# Altium footprint library PcbLib1.PcbLib: 90 footprints (part 6 of 6)
Each footprint in its own frame and in the unit in brackets; x right, y up, seen from the top. Pads: shape width x height; smd on the part's side, far side on the other; paste and mask are expansions set on the pad; w line width, h text height; cw(c..) or ccw(c..) is an arc to the next point about the centre after c.
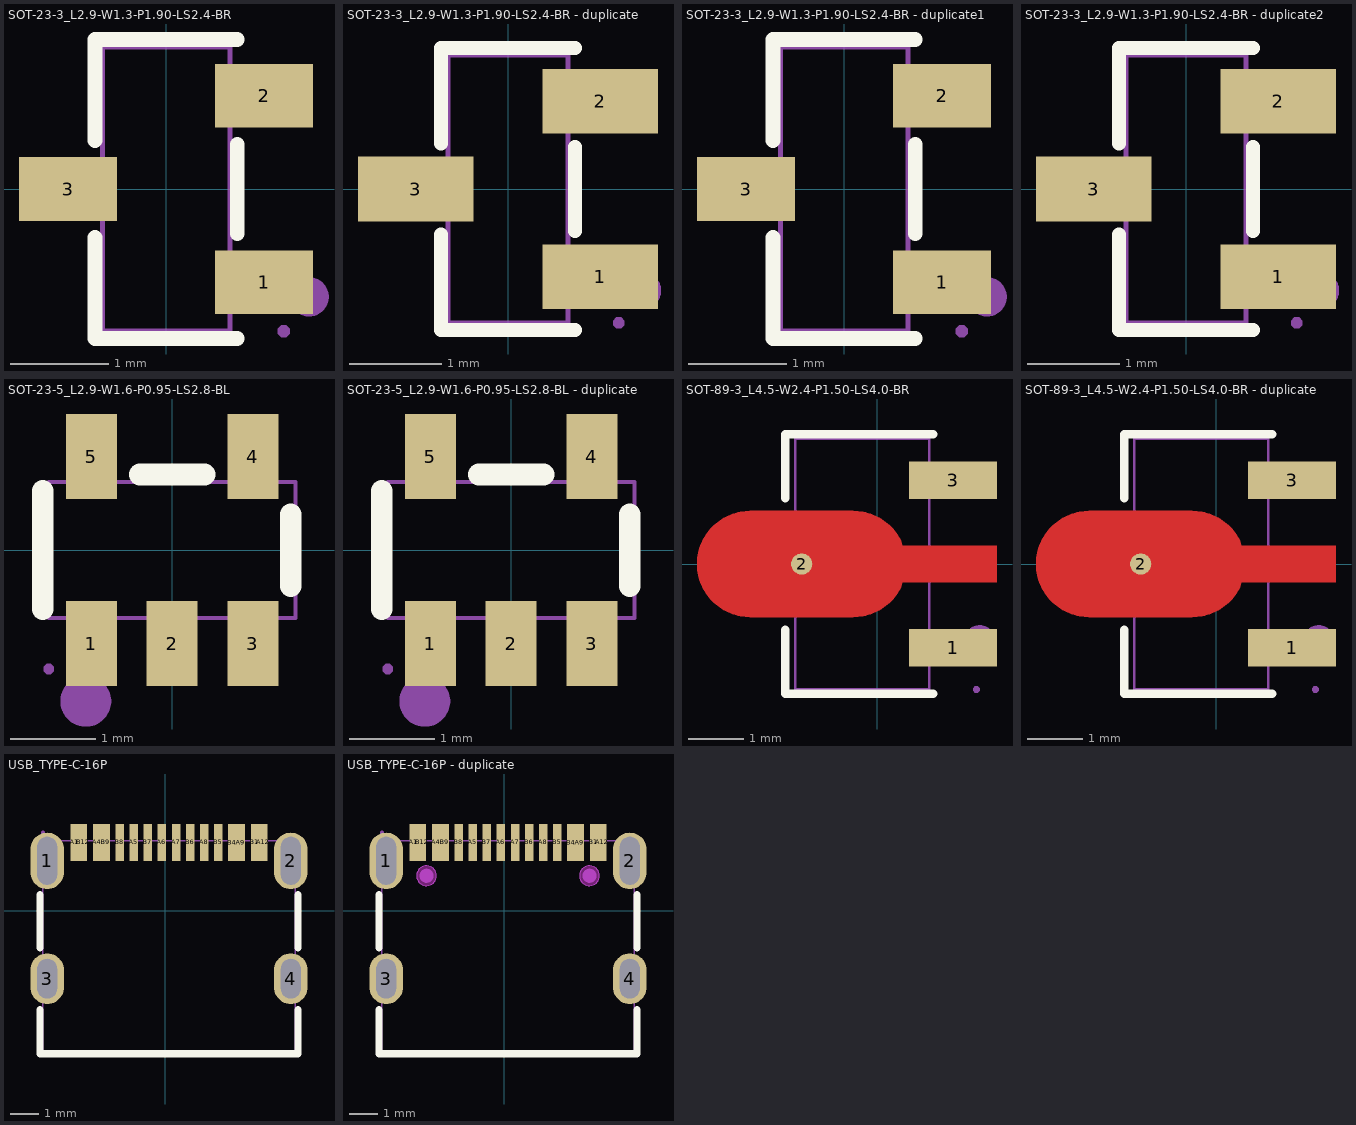
[diagram p5: the footprints below, top view; thin cyan lines are the x and y axes]

## SOT-23-3_L2.9-W1.3-P1.90-LS2.4-BR [mm]
pads (3):
  rect 1x0.65 smd paste+0.051: 1(1,-0.95) 2(1,0.95) 3(-1,0)
Top Overlay:
  lines w0.152: -0.726,-0.495 -0.726,-1.526 0.726,-1.526 ; -0.726,0.495 -0.726,1.526 0.726,1.526 ; 0.726,-0.455 0.726,0.455
Mechanical 6:
  circle w0.2: c1.46,-1.1 r0.1
Mechanical 7:
  lines w0.051: -0.65,-1.45 0.65,-1.45 0.65,1.45 -0.65,1.45 -0.65,-1.45
Mechanical 8:
  region: 1.26,-1.45 1.26,-1.475 1.225,-1.51 1.175,-1.51 1.14,-1.475 1.14,-1.45 1.14,-1.425 1.175,-1.39 1.225,-1.39 1.26,-1.425
Mechanical 9:
  region: -1.2,-0.215 -1.2,0.215 -0.9,0.215 -0.9,-0.215
  region: 0.9,-1.165 0.9,-0.735 1.2,-0.735 1.2,-1.165
  region: 0.9,0.735 0.9,1.165 1.2,1.165 1.2,0.735
Mechanical 10:
  region: -0.91,-0.215 -0.91,0.215 -0.64,0.215 -0.64,-0.215
  region: 0.64,-1.165 0.64,-0.735 0.91,-0.735 0.91,-1.165
  region: 0.64,0.735 0.64,1.165 0.91,1.165 0.91,0.735

## SOT-23-3_L2.9-W1.3-P1.90-LS2.4-BR - duplicate [mm]
pads (3):
  rect 1.25x0.7 smd paste+0.051: 1(1,-0.95) 2(1,0.95) 3(-1,0)
Top Overlay:
  lines w0.152: -0.726,-0.495 -0.726,-1.526 0.726,-1.526 ; -0.726,0.495 -0.726,1.526 0.726,1.526 ; 0.726,-0.455 0.726,0.455
Mechanical 6:
  circle w0.2: c1.46,-1.1 r0.1
Mechanical 7:
  lines w0.051: -0.65,-1.45 -0.65,1.45 0.65,1.45 0.65,-1.45 -0.65,-1.45
Mechanical 8:
  region: 1.26,-1.45 1.26,-1.475 1.225,-1.51 1.175,-1.51 1.14,-1.475 1.14,-1.45 1.14,-1.425 1.175,-1.39 1.225,-1.39 1.26,-1.425
Mechanical 9:
  region: 0.9,0.735 0.9,1.165 1.2,1.165 1.2,0.735
  region: 0.9,-1.165 0.9,-0.735 1.2,-0.735 1.2,-1.165
  region: -1.2,-0.215 -1.2,0.215 -0.9,0.215 -0.9,-0.215
Mechanical 10:
  region: 0.64,0.735 0.64,1.165 0.91,1.165 0.91,0.735
  region: 0.64,-1.165 0.64,-0.735 0.91,-0.735 0.91,-1.165
  region: -0.91,-0.215 -0.91,0.215 -0.64,0.215 -0.64,-0.215

## SOT-23-3_L2.9-W1.3-P1.90-LS2.4-BR - duplicate1 [mm]
pads (3):
  rect 1x0.65 smd paste+0.051: 1(1,-0.95) 2(1,0.95) 3(-1,0)
Top Overlay:
  lines w0.152: -0.726,-0.495 -0.726,-1.526 0.726,-1.526 ; -0.726,0.495 -0.726,1.526 0.726,1.526 ; 0.726,-0.455 0.726,0.455
Mechanical 6:
  circle w0.2: c1.46,-1.1 r0.1
Mechanical 7:
  lines w0.051: -0.65,-1.45 0.65,-1.45 0.65,1.45 -0.65,1.45 -0.65,-1.45
Mechanical 8:
  region: 1.26,-1.45 1.26,-1.475 1.225,-1.51 1.175,-1.51 1.14,-1.475 1.14,-1.45 1.14,-1.425 1.175,-1.39 1.225,-1.39 1.26,-1.425
Mechanical 9:
  region: -1.2,-0.215 -1.2,0.215 -0.9,0.215 -0.9,-0.215
  region: 0.9,-1.165 0.9,-0.735 1.2,-0.735 1.2,-1.165
  region: 0.9,0.735 0.9,1.165 1.2,1.165 1.2,0.735
Mechanical 10:
  region: -0.91,-0.215 -0.91,0.215 -0.64,0.215 -0.64,-0.215
  region: 0.64,-1.165 0.64,-0.735 0.91,-0.735 0.91,-1.165
  region: 0.64,0.735 0.64,1.165 0.91,1.165 0.91,0.735

## SOT-23-3_L2.9-W1.3-P1.90-LS2.4-BR - duplicate2 [mm]
pads (3):
  rect 1.25x0.7 smd paste+0.051: 1(1,-0.95) 2(1,0.95) 3(-1,0)
Top Overlay:
  lines w0.152: -0.726,-0.495 -0.726,-1.526 0.726,-1.526 ; -0.726,0.495 -0.726,1.526 0.726,1.526 ; 0.726,-0.455 0.726,0.455
Mechanical 6:
  circle w0.2: c1.46,-1.1 r0.1
Mechanical 7:
  lines w0.051: -0.65,-1.45 0.65,-1.45 0.65,1.45 -0.65,1.45 -0.65,-1.45
Mechanical 8:
  region: 1.26,-1.45 1.26,-1.475 1.225,-1.51 1.175,-1.51 1.14,-1.475 1.14,-1.45 1.14,-1.425 1.175,-1.39 1.225,-1.39 1.26,-1.425
Mechanical 9:
  region: -1.2,-0.215 -1.2,0.215 -0.9,0.215 -0.9,-0.215
  region: 0.9,-1.165 0.9,-0.735 1.2,-0.735 1.2,-1.165
  region: 0.9,0.735 0.9,1.165 1.2,1.165 1.2,0.735
Mechanical 10:
  region: -0.91,-0.215 -0.91,0.215 -0.64,0.215 -0.64,-0.215
  region: 0.64,-1.165 0.64,-0.735 0.91,-0.735 0.91,-1.165
  region: 0.64,0.735 0.64,1.165 0.91,1.165 0.91,0.735

## SOT-23-5_L2.9-W1.6-P0.95-LS2.8-BL [mm]
pads (5):
  rect 0.6x1 smd paste+0 mask+0.05: 1(-0.95,-1.1) 2(0,-1.1) 3(0.95,-1.1) 4(0.95,1.1) 5(-0.95,1.1)
Top Overlay:
  lines w0.254: -1.524,-0.699 -1.524,0.699 ; -0.381,0.889 0.381,0.889 ; 1.397,-0.422 1.397,0.422
Mechanical 6:
  circle w0.3: c-1.016,-1.778 r0.15
Mechanical 7:
  lines w0.051: -1.45,-0.8 1.45,-0.8 1.45,0.8 -1.45,0.8 -1.45,-0.8
Mechanical 8:
  region: -1.39,-1.4 -1.39,-1.425 -1.425,-1.46 -1.475,-1.46 -1.51,-1.425 -1.51,-1.4 -1.51,-1.375 -1.475,-1.34 -1.425,-1.34 -1.39,-1.375
Mechanical 9:
  region: -1.15,0.95 -1.15,1.4 -0.75,1.4 -0.75,0.95
  region: 0.75,0.95 0.75,1.4 1.15,1.4 1.15,0.95
  region: -1.15,-1.4 -1.15,-0.95 -0.75,-0.95 -0.75,-1.4
  region: 0.75,-1.4 0.75,-0.95 1.15,-0.95 1.15,-1.4
  region: -0.2,-1.4 -0.2,-0.95 0.2,-0.95 0.2,-1.4
Mechanical 10:
  region: -1.15,0.79 -1.15,0.96 -0.75,0.96 -0.75,0.79
  region: 0.75,0.79 0.75,0.96 1.15,0.96 1.15,0.79
  region: -1.15,-0.96 -1.15,-0.79 -0.75,-0.79 -0.75,-0.96
  region: 0.75,-0.96 0.75,-0.79 1.15,-0.79 1.15,-0.96
  region: -0.2,-0.96 -0.2,-0.79 0.2,-0.79 0.2,-0.96

## SOT-23-5_L2.9-W1.6-P0.95-LS2.8-BL - duplicate [mm]
pads (5):
  rect 0.6x1 smd paste+0 mask+0.05: 1(-0.95,-1.1) 2(0,-1.1) 3(0.95,-1.1) 4(0.95,1.1) 5(-0.95,1.1)
Top Overlay:
  lines w0.254: -1.524,-0.699 -1.524,0.699 ; -0.381,0.889 0.381,0.889 ; 1.397,-0.422 1.397,0.422
Mechanical 6:
  circle w0.3: c-1.016,-1.778 r0.15
Mechanical 7:
  lines w0.051: -1.45,-0.8 -1.45,0.8 1.45,0.8 1.45,-0.8 -1.45,-0.8
Mechanical 8:
  region: -1.39,-1.4 -1.39,-1.425 -1.425,-1.46 -1.475,-1.46 -1.51,-1.425 -1.51,-1.4 -1.51,-1.375 -1.475,-1.34 -1.425,-1.34 -1.39,-1.375
Mechanical 9:
  region: -0.2,-1.4 -0.2,-0.95 0.2,-0.95 0.2,-1.4
  region: 0.75,-1.4 0.75,-0.95 1.15,-0.95 1.15,-1.4
  region: -1.15,-1.4 -1.15,-0.95 -0.75,-0.95 -0.75,-1.4
  region: 0.75,0.95 0.75,1.4 1.15,1.4 1.15,0.95
  region: -1.15,0.95 -1.15,1.4 -0.75,1.4 -0.75,0.95
Mechanical 10:
  region: -0.2,-0.96 -0.2,-0.79 0.2,-0.79 0.2,-0.96
  region: 0.75,-0.96 0.75,-0.79 1.15,-0.79 1.15,-0.96
  region: -1.15,-0.96 -1.15,-0.79 -0.75,-0.79 -0.75,-0.96
  region: 0.75,0.79 0.75,0.96 1.15,0.96 1.15,0.79
  region: -1.15,0.79 -1.15,0.96 -0.75,0.96 -0.75,0.79

## SOT-89-3_L4.5-W2.4-P1.50-LS4.0-BR [mm]
pads (3):
  rect 1.575x0.672 smd paste+0.051: 1(1.356,-1.5) 3(1.356,1.5)
  round 0.38 smd: 2(-1.356,0)
Top Layer:
  region: -2.283,0.95 -0.429,0.95 -0.384,0.949 -0.34,0.946 -0.296,0.941 -0.252,0.933 -0.208,0.924 -0.165,0.913 -0.123,0.899 -0.081,0.884 -0.04,0.867 0,0.847 0.04,0.826 0.078,0.804 0.115,0.779 0.151,0.753 0.185,0.725 0.219,0.695 0.251,0.664 0.281,0.631 0.31,0.597 0.337,0.562 0.362,0.525 0.386,0.488 0.408,0.449 0.428,0.409 0.447,0.33 2.144,0.33 2.144,-0.33 0.447,-0.33 0.428,-0.409 0.408,-0.449 0.386,-0.488 0.362,-0.525 0.337,-0.562 0.31,-0.597 0.281,-0.631 0.251,-0.664 0.219,-0.695 0.185,-0.725 0.151,-0.753 0.115,-0.779 0.078,-0.804 0.04,-0.826 0,-0.847 -0.04,-0.867 -0.081,-0.884 -0.123,-0.899 -0.165,-0.913 -0.208,-0.924 -0.252,-0.933 -0.296,-0.941 -0.34,-0.946 -0.384,-0.949 -0.429,-0.95 -2.283,-0.95 -2.328,-0.949 -2.372,-0.946 -2.416,-0.941 -2.46,-0.933 -2.504,-0.924 -2.547,-0.913 -2.589,-0.899 -2.631,-0.884 -2.672,-0.867 -2.712,-0.847 -2.752,-0.826 -2.79,-0.804 -2.827,-0.779 -2.863,-0.753 -2.898,-0.725 -2.931,-0.695 -2.963,-0.664 -2.993,-0.631 -3.022,-0.597 -3.049,-0.562 -3.075,-0.525 -3.098,-0.488 -3.12,-0.449 -3.14,-0.409 -3.159,-0.369 -3.175,-0.327 -3.189,-0.285 -3.202,-0.242 -3.212,-0.199 -3.22,-0.155 -3.227,-0.111 -3.231,-0.067 -3.233,-0.022 -3.233,0.022 -3.231,0.067 -3.227,0.111 -3.22,0.155 -3.212,0.199 -3.202,0.242 -3.189,0.285 -3.175,0.327 -3.159,0.369 -3.14,0.409 -3.12,0.449 -3.098,0.488 -3.075,0.525 -3.049,0.562 -3.022,0.597 -2.993,0.631 -2.963,0.664 -2.931,0.695 -2.898,0.725 -2.863,0.753 -2.827,0.779 -2.79,0.804 -2.752,0.826 -2.712,0.847 -2.672,0.867 -2.631,0.884 -2.589,0.899 -2.547,0.913 -2.504,0.924 -2.46,0.933 -2.416,0.941 -2.372,0.946 -2.328,0.949
Top Overlay:
  lines w0.152: -1.65,-1.177 -1.65,-2.326 1.003,-2.326 ; -1.65,1.177 -1.65,2.326 1.003,2.326
Mechanical 6:
  circle w0.3: c1.832,-1.397 r0.15
Mechanical 7:
  lines w0.051: -1.471,-2.25 0.929,-2.25 0.929,2.25 -1.471,2.25 -1.471,-2.25
Mechanical 8:
  region: 1.834,-2.25 1.834,-2.275 1.799,-2.31 1.749,-2.31 1.714,-2.275 1.714,-2.25 1.714,-2.225 1.749,-2.19 1.799,-2.19 1.834,-2.225
Mechanical 9:
  region: 0.624,-1.74 0.624,-1.26 1.674,-1.26 1.674,-1.74
  region: 0.624,1.26 0.624,1.74 1.674,1.74 1.674,1.26
  region: 0.439,-0.26 1.774,-0.264 1.774,0.286 0.439,0.286 -0.136,0.862 -1.796,0.862 -2.221,0.287 -2.221,-0.288 -1.796,-0.863 -0.136,-0.863

## SOT-89-3_L4.5-W2.4-P1.50-LS4.0-BR - duplicate [mm]
pads (3):
  rect 1.575x0.672 smd paste+0.051: 1(1.356,-1.5) 3(1.356,1.5)
  round 0.38 smd: 2(-1.356,0)
Top Layer:
  region: -2.283,0.95 -0.429,0.95 -0.384,0.949 -0.34,0.946 -0.296,0.941 -0.252,0.933 -0.208,0.924 -0.165,0.913 -0.123,0.899 -0.081,0.884 -0.04,0.867 0,0.847 0.04,0.826 0.078,0.804 0.115,0.779 0.151,0.753 0.185,0.725 0.219,0.695 0.251,0.664 0.281,0.631 0.31,0.597 0.337,0.562 0.362,0.525 0.386,0.488 0.408,0.449 0.428,0.409 0.447,0.33 2.144,0.33 2.144,-0.33 0.447,-0.33 0.428,-0.409 0.408,-0.449 0.386,-0.488 0.362,-0.525 0.337,-0.562 0.31,-0.597 0.281,-0.631 0.251,-0.664 0.219,-0.695 0.185,-0.725 0.151,-0.753 0.115,-0.779 0.078,-0.804 0.04,-0.826 0,-0.847 -0.04,-0.867 -0.081,-0.884 -0.123,-0.899 -0.165,-0.913 -0.208,-0.924 -0.252,-0.933 -0.296,-0.941 -0.34,-0.946 -0.384,-0.949 -0.429,-0.95 -2.283,-0.95 -2.328,-0.949 -2.372,-0.946 -2.416,-0.941 -2.46,-0.933 -2.504,-0.924 -2.547,-0.913 -2.589,-0.899 -2.631,-0.884 -2.672,-0.867 -2.712,-0.847 -2.752,-0.826 -2.79,-0.804 -2.827,-0.779 -2.863,-0.753 -2.898,-0.725 -2.931,-0.695 -2.963,-0.664 -2.993,-0.631 -3.022,-0.597 -3.049,-0.562 -3.075,-0.525 -3.098,-0.488 -3.12,-0.449 -3.14,-0.409 -3.159,-0.369 -3.175,-0.327 -3.189,-0.285 -3.202,-0.242 -3.212,-0.199 -3.22,-0.155 -3.227,-0.111 -3.231,-0.067 -3.233,-0.022 -3.233,0.022 -3.231,0.067 -3.227,0.111 -3.22,0.155 -3.212,0.199 -3.202,0.242 -3.189,0.285 -3.175,0.327 -3.159,0.369 -3.14,0.409 -3.12,0.449 -3.098,0.488 -3.075,0.525 -3.049,0.562 -3.022,0.597 -2.993,0.631 -2.963,0.664 -2.931,0.695 -2.898,0.725 -2.863,0.753 -2.827,0.779 -2.79,0.804 -2.752,0.826 -2.712,0.847 -2.672,0.867 -2.631,0.884 -2.589,0.899 -2.547,0.913 -2.504,0.924 -2.46,0.933 -2.416,0.941 -2.372,0.946 -2.328,0.949
Top Overlay:
  lines w0.152: -1.65,-1.177 -1.65,-2.326 1.003,-2.326 ; -1.65,1.177 -1.65,2.326 1.003,2.326
Mechanical 6:
  circle w0.3: c1.832,-1.397 r0.15
Mechanical 7:
  lines w0.051: -1.471,-2.25 0.929,-2.25 0.929,2.25 -1.471,2.25 -1.471,-2.25
Mechanical 8:
  region: 1.834,-2.25 1.834,-2.275 1.799,-2.31 1.749,-2.31 1.714,-2.275 1.714,-2.25 1.714,-2.225 1.749,-2.19 1.799,-2.19 1.834,-2.225
Mechanical 9:
  region: 0.624,-1.74 0.624,-1.26 1.674,-1.26 1.674,-1.74
  region: 0.624,1.26 0.624,1.74 1.674,1.74 1.674,1.26
  region: 0.439,-0.26 1.774,-0.264 1.774,0.286 0.439,0.286 -0.136,0.862 -1.796,0.862 -2.221,0.287 -2.221,-0.288 -1.796,-0.863 -0.136,-0.863

## USB_TYPE-C-16P [mm]
pads (20):
  oval 1.2x2 hole 0.7 slot 1.7 at 90 deg paste-2539.97 mask+0.051: 1(-4.193,1.765) 2(4.447,1.765)
  oval 1.2x1.8 hole 0.7 slot 1.4 at 90 deg paste-2539.97 mask+0.051: 3(-4.193,-2.415) 4(4.447,-2.415)
  rect 0.3x1.3 smd paste-100 mask+0.05: A1(-3.223,2.415) A4(-2.423,2.415) A5(-1.123,2.415) A6(-0.123,2.415) A7(0.377,2.415) A8(1.377,2.415) A9(2.677,2.415) A12(3.477,2.415) B1(3.177,2.415) B4(2.377,2.415) B5(1.877,2.415) B6(0.877,2.415) B7(-0.623,2.415) B8(-1.623,2.415) B9(-2.123,2.415) B12(-2.923,2.415)
Top Overlay:
  lines w0.254: -4.445,-3.507 -4.445,-5.08 4.699,-5.08 4.699,-3.507 ; -4.445,-1.323 -4.445,0.573 ; 4.699,-1.323 4.699,0.573
Top Paste:
  drawing of 16 lines, arcs and shapes, not listed
Mechanical 7:
  lines w0.051: -4.343,-5.08 -4.343,2.47 4.597,2.47 4.597,-5.08 -4.343,-5.08
Mechanical 8:
  region: -4.283,2.77 -4.283,2.745 -4.318,2.71 -4.368,2.71 -4.403,2.745 -4.403,2.77 -4.403,2.795 -4.368,2.83 -4.318,2.83 -4.283,2.795
Mechanical 9:
  region: -4.343,2.315 -4.043,2.315 -4.043,1.215 -4.343,1.215
  region: 4.297,2.315 4.597,2.315 4.597,1.215 4.297,1.215
  region: -4.343,-2.015 -4.043,-2.015 -4.043,-2.815 -4.343,-2.815
  region: 4.297,-2.015 4.597,-2.015 4.597,-2.815 4.297,-2.815
  region: 1.277,2.77 1.477,2.77 1.477,1.77 1.277,1.77
  region: 1.777,2.77 1.977,2.77 1.977,1.77 1.777,1.77
  region: 0.777,2.77 0.977,2.77 0.977,1.77 0.777,1.77
  region: 0.277,2.77 0.477,2.77 0.477,1.77 0.277,1.77
  region: -0.223,2.77 -0.023,2.77 -0.023,1.77 -0.223,1.77
  region: -0.723,2.77 -0.523,2.77 -0.523,1.77 -0.723,1.77
  region: -1.223,2.77 -1.023,2.77 -1.023,1.77 -1.223,1.77
  region: -1.723,2.77 -1.523,2.77 -1.523,1.77 -1.723,1.77
  region: -2.276,2.77 -2.076,2.77 -2.076,1.77 -2.276,1.77
  region: -2.475,2.77 -2.275,2.77 -2.275,1.77 -2.475,1.77
  region: -3.076,2.77 -2.876,2.77 -2.876,1.77 -3.076,1.77
  region: -3.275,2.77 -3.075,2.77 -3.075,1.77 -3.275,1.77
  region: 2.325,2.77 2.525,2.77 2.525,1.77 2.325,1.77
  region: 2.524,2.77 2.724,2.77 2.724,1.77 2.524,1.77
  region: 3.128,2.77 3.328,2.77 3.328,1.77 3.128,1.77
  region: 3.326,2.77 3.526,2.77 3.526,1.77 3.326,1.77

## USB_TYPE-C-16P - duplicate [mm]
pads (20):
  oval 1.2x2 hole 0.7 slot 1.7 at 90 deg paste-2539.97 mask+0.051: 1(-4.193,1.765) 2(4.447,1.765)
  oval 1.2x1.8 hole 0.7 slot 1.4 at 90 deg paste-2539.97 mask+0.051: 3(-4.193,-2.415) 4(4.447,-2.415)
  rect 0.3x1.3 smd paste-100 mask+0.05: A1(-3.223,2.415) A4(-2.423,2.415) A5(-1.123,2.415) A6(-0.123,2.415) A7(0.377,2.415) A8(1.377,2.415) A9(2.677,2.415) A12(3.477,2.415) B1(3.177,2.415) B4(2.377,2.415) B5(1.877,2.415) B6(0.877,2.415) B7(-0.623,2.415) B8(-1.623,2.415) B9(-2.123,2.415) B12(-2.923,2.415)
Top Overlay:
  lines w0.254: -4.445,-3.507 -4.445,-5.08 4.699,-5.08 4.699,-3.507 ; -4.445,-1.323 -4.445,0.573 ; 4.699,-1.323 4.699,0.573
Top Paste:
  drawing of 16 lines, arcs and shapes, not listed
Keep-Out Layer:
  circle w0.003: c3.017,1.235 r0.35
  circle w0.003: c-2.763,1.235 r0.35
  region: 3.367,1.235 3.367,1.165 3.314,1.037 3.215,0.938 3.087,0.885 2.947,0.885 2.819,0.938 2.72,1.037 2.667,1.165 2.667,1.235 2.667,1.305 2.72,1.433 2.819,1.532 2.947,1.585 3.087,1.585 3.215,1.532 3.314,1.433 3.367,1.305
  region: 3.367,1.235 3.367,1.165 3.314,1.037 3.215,0.938 3.087,0.885 2.947,0.885 2.819,0.938 2.72,1.037 2.667,1.165 2.667,1.235 2.667,1.305 2.72,1.433 2.819,1.532 2.947,1.585 3.087,1.585 3.215,1.532 3.314,1.433 3.367,1.305
  region: -2.413,1.235 -2.413,1.165 -2.466,1.037 -2.565,0.938 -2.693,0.885 -2.833,0.885 -2.961,0.938 -3.06,1.037 -3.113,1.165 -3.113,1.235 -3.113,1.305 -3.06,1.433 -2.961,1.532 -2.833,1.585 -2.693,1.585 -2.565,1.532 -2.466,1.433 -2.413,1.305
  region: -2.413,1.235 -2.413,1.165 -2.466,1.037 -2.565,0.938 -2.693,0.885 -2.833,0.885 -2.961,0.938 -3.06,1.037 -3.113,1.165 -3.113,1.235 -3.113,1.305 -3.06,1.433 -2.961,1.532 -2.833,1.585 -2.693,1.585 -2.565,1.532 -2.466,1.433 -2.413,1.305
Mechanical 1:
  circle w0.003: c3.017,1.235 r0.35
  circle w0.003: c-2.763,1.235 r0.35
Mechanical 6:
  circle w0.25: c3.017,1.235 r0.125
  circle w0.25: c-2.763,1.235 r0.125
Mechanical 7:
  lines w0.051: -4.343,-5.08 4.597,-5.08 4.597,2.47 -4.343,2.47 -4.343,-5.08
Mechanical 8:
  region: -4.283,2.77 -4.283,2.745 -4.318,2.71 -4.368,2.71 -4.403,2.745 -4.403,2.77 -4.403,2.795 -4.368,2.83 -4.318,2.83 -4.283,2.795
Mechanical 9:
  region: 3.326,2.77 3.526,2.77 3.526,1.77 3.326,1.77
  region: 3.128,2.77 3.328,2.77 3.328,1.77 3.128,1.77
  region: 2.524,2.77 2.724,2.77 2.724,1.77 2.524,1.77
  region: 2.325,2.77 2.525,2.77 2.525,1.77 2.325,1.77
  region: -3.275,2.77 -3.075,2.77 -3.075,1.77 -3.275,1.77
  region: -3.076,2.77 -2.876,2.77 -2.876,1.77 -3.076,1.77
  region: -2.475,2.77 -2.275,2.77 -2.275,1.77 -2.475,1.77
  region: -2.276,2.77 -2.076,2.77 -2.076,1.77 -2.276,1.77
  region: -1.723,2.77 -1.523,2.77 -1.523,1.77 -1.723,1.77
  region: -1.223,2.77 -1.023,2.77 -1.023,1.77 -1.223,1.77
  region: -0.723,2.77 -0.523,2.77 -0.523,1.77 -0.723,1.77
  region: -0.223,2.77 -0.023,2.77 -0.023,1.77 -0.223,1.77
  region: 0.277,2.77 0.477,2.77 0.477,1.77 0.277,1.77
  region: 0.777,2.77 0.977,2.77 0.977,1.77 0.777,1.77
  region: 1.777,2.77 1.977,2.77 1.977,1.77 1.777,1.77
  region: 1.277,2.77 1.477,2.77 1.477,1.77 1.277,1.77
  region: 4.297,-2.015 4.597,-2.015 4.597,-2.815 4.297,-2.815
  region: -4.343,-2.015 -4.043,-2.015 -4.043,-2.815 -4.343,-2.815
  region: 4.297,2.315 4.597,2.315 4.597,1.215 4.297,1.215
  region: -4.343,2.315 -4.043,2.315 -4.043,1.215 -4.343,1.215